# EAGLE library part ISL3332 (library Pygmy)
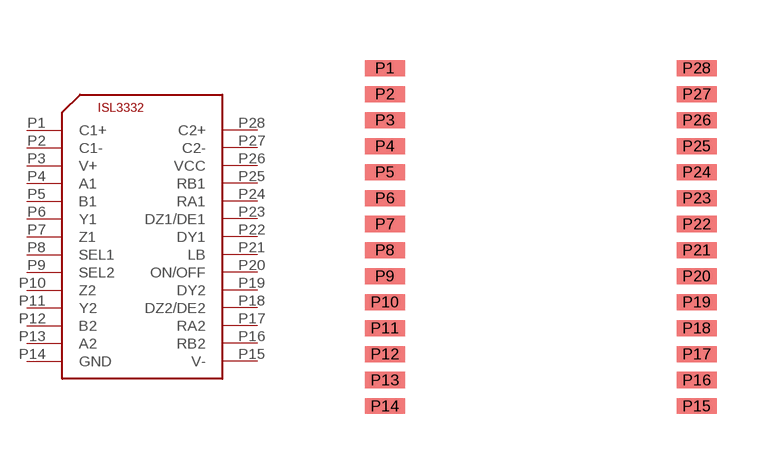
[diagram p70: symbol with the pads of SSOP28; footprint SSOP28]

Designator prefix -

## ISL3332  [SSOP28]
P1  C1+
P2  C1-
P3  V+
P4  A1
P5  B1
P6  Y1
P7  Z1
P8  SEL1
P9  SEL2
P10  Z2
P11  Y2
P12  B2
P13  A2
P14  GND
P15  V-
P16  RB2
P17  RA2
P18  DZ2/DE2
P19  DY2
P20  ON/OFF
P21  LB
P22  DY1
P23  DZ1/DE1
P24  RA1
P25  RB1
P26  VCC
P27  C2-
P28  C2+

## Footprint SSOP28 (pad centres in mm)
smd 1 x 0.4: P1 0,0; P2 0,-0.65; P3 0,-1.3; P4 0,-1.95; P5 0,-2.6; P6 0,-3.25; P7 0,-3.9; P8 0,-4.55; P9 0,-5.2; P10 0,-5.85; P11 0,-6.5; P12 0,-7.15; P13 0,-7.8; P14 0,-8.45; P15 7.8,-8.45; P16 7.8,-7.8; P17 7.8,-7.15; P18 7.8,-6.5; P19 7.8,-5.85; P20 7.8,-5.2; P21 7.8,-4.55; P22 7.8,-3.9; P23 7.8,-3.25; P24 7.8,-2.6; P25 7.8,-1.95; P26 7.8,-1.3; P27 7.8,-0.65; P28 7.8,0